# Altium schematic symbol library Epcos Inductors.SchLib: 1 symbol
Pins are listed as number, name and electrical type; pins without a type are passive.

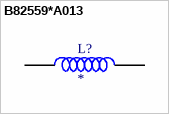
[diagram p0: symbol B82559*A013]

## B82559*A013
designator L?
Helically wound power inductor
footprint B82559*A013
pins: 1, 2